# Altium schematic symbol library Relay_F1CA012V.SchLib: 1 symbol
Pins are listed as number, name and electrical type; pins without a type are passive.

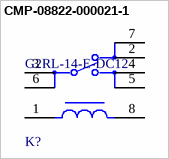
[diagram p0: symbol CMP-08822-000021-1]

## CMP-08822-000021-1
designator K?, comment G2RL-14-E-DC12
RELAY GEN PURPOSE SPDT 16A 12V; Max Voltage Rating (DC): 300V; Voltage Rating (AC): 440V; Operate Time: 15ms; Relay Type: General Purpose; Release Time: 5ms; Coil Type: Non-Latching; Power Consumption: 400mW; Coil Resistance: 360R; Coil Current: 33.3mA; Length: 29mm; Packaging: Rail/Tube; Case/Package: DIP; Depth: 12.7mm; Package Quantity: 100; Max Current Rating: 16A; Width: 12.7mm; Contact Current Rating: 16A; Throw Configuration: SPDT; Coil Voltage (DC): 12V; Number of Pins: 8; Termination: PC Pin; Mount: Through Hole; Lead Free: Lead Free; Contact Material: Silver; Max Operating Temperature: 85°C; Min Operating Temperature: -40°C; Height: 15.7mm; Coil Power: 400mW; Max Voltage Rating (AC): 440V; Radiation Hardening: No; Weight: 12g
footprint FP-G2RL-14-E-DC12-MFG
pins: 1, 2, 3, 4, 5, 6, 7, 8